# EAGLE library part CD74HC4052 (library bschulz)
CD74HC4052 - Dual 4x1 Analog Multiplexer/Demultiplexer Characteristics: VCC: 2 ~ 6V Vswitch: 0 ~ 10V Operating Temperature: -55°C to 125°C Digikey: 296-17619-1-ND (TSSOP) <https://www.digikey.com/product-detail/en/texas-instruments/CD74HC4052PWR/296-17619-1-ND/710465> 296-9218-5-ND (SOIC) <https://www.digikey.com/product-detail/en/texas-instruments/CD74HC4052M/296-9218-5-ND/376764> 296-9217-5-ND (DIP) <https://www.digikey.com/product-detail/en/texas-instruments/CD74HC4052E/296-9217-5-ND/376770>
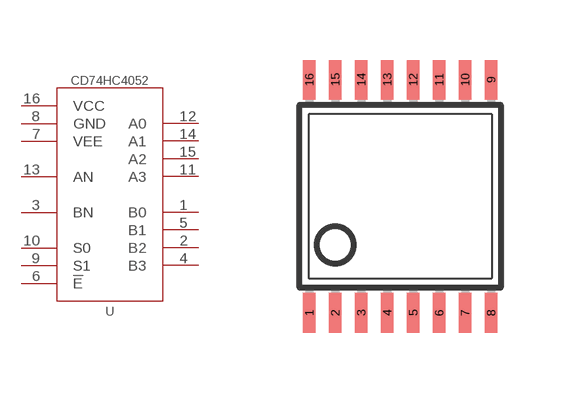
[diagram p112: symbol with the pads of TSSOP16; footprint TSSOP16]

Designator prefix U

## CD74HC4052PW (DIGIKEY: 296-17619-1-ND; MF: TI; MPN: CD74HC4052PWR)  [TSSOP16]
1  B0
2  B2
3  BN
4  B3
5  B1
6  !E  in
7  VEE  pwr
8  GND  pwr
9  S1  in
10  S0  in
11  A3
12  A0
13  AN
14  A1
15  A2
16  VCC  pwr

## Footprint TSSOP16 (pad centres in mm)
Thin Shrink Small Outline Plastic 16 http://www.maxim-ic.com .. MAX3223-MAX3243.pdf
smd 0.305 x 0.991: 1 -2.275,-2.918; 2 -1.625,-2.918; 3 -0.975,-2.918; 4 -0.325,-2.918; 5 0.325,-2.918; 6 0.975,-2.918; 7 1.625,-2.918; 8 2.275,-2.918; 9 2.275,2.918; 10 1.625,2.918; 11 0.975,2.918; 12 0.325,2.918; 13 -0.325,2.918; 14 -0.975,2.918; 15 -1.625,2.918; 16 -2.275,2.918